# Altium footprint library Cortex-M4.PcbLib: 14 footprints
Each footprint in its own frame and in the unit in brackets; x right, y up, seen from the top. Pads: shape width x height; smd on the part's side, far side on the other; paste and mask are expansions set on the pad; w line width, h text height; cw(c..) or ccw(c..) is an arc to the next point about the centre after c.
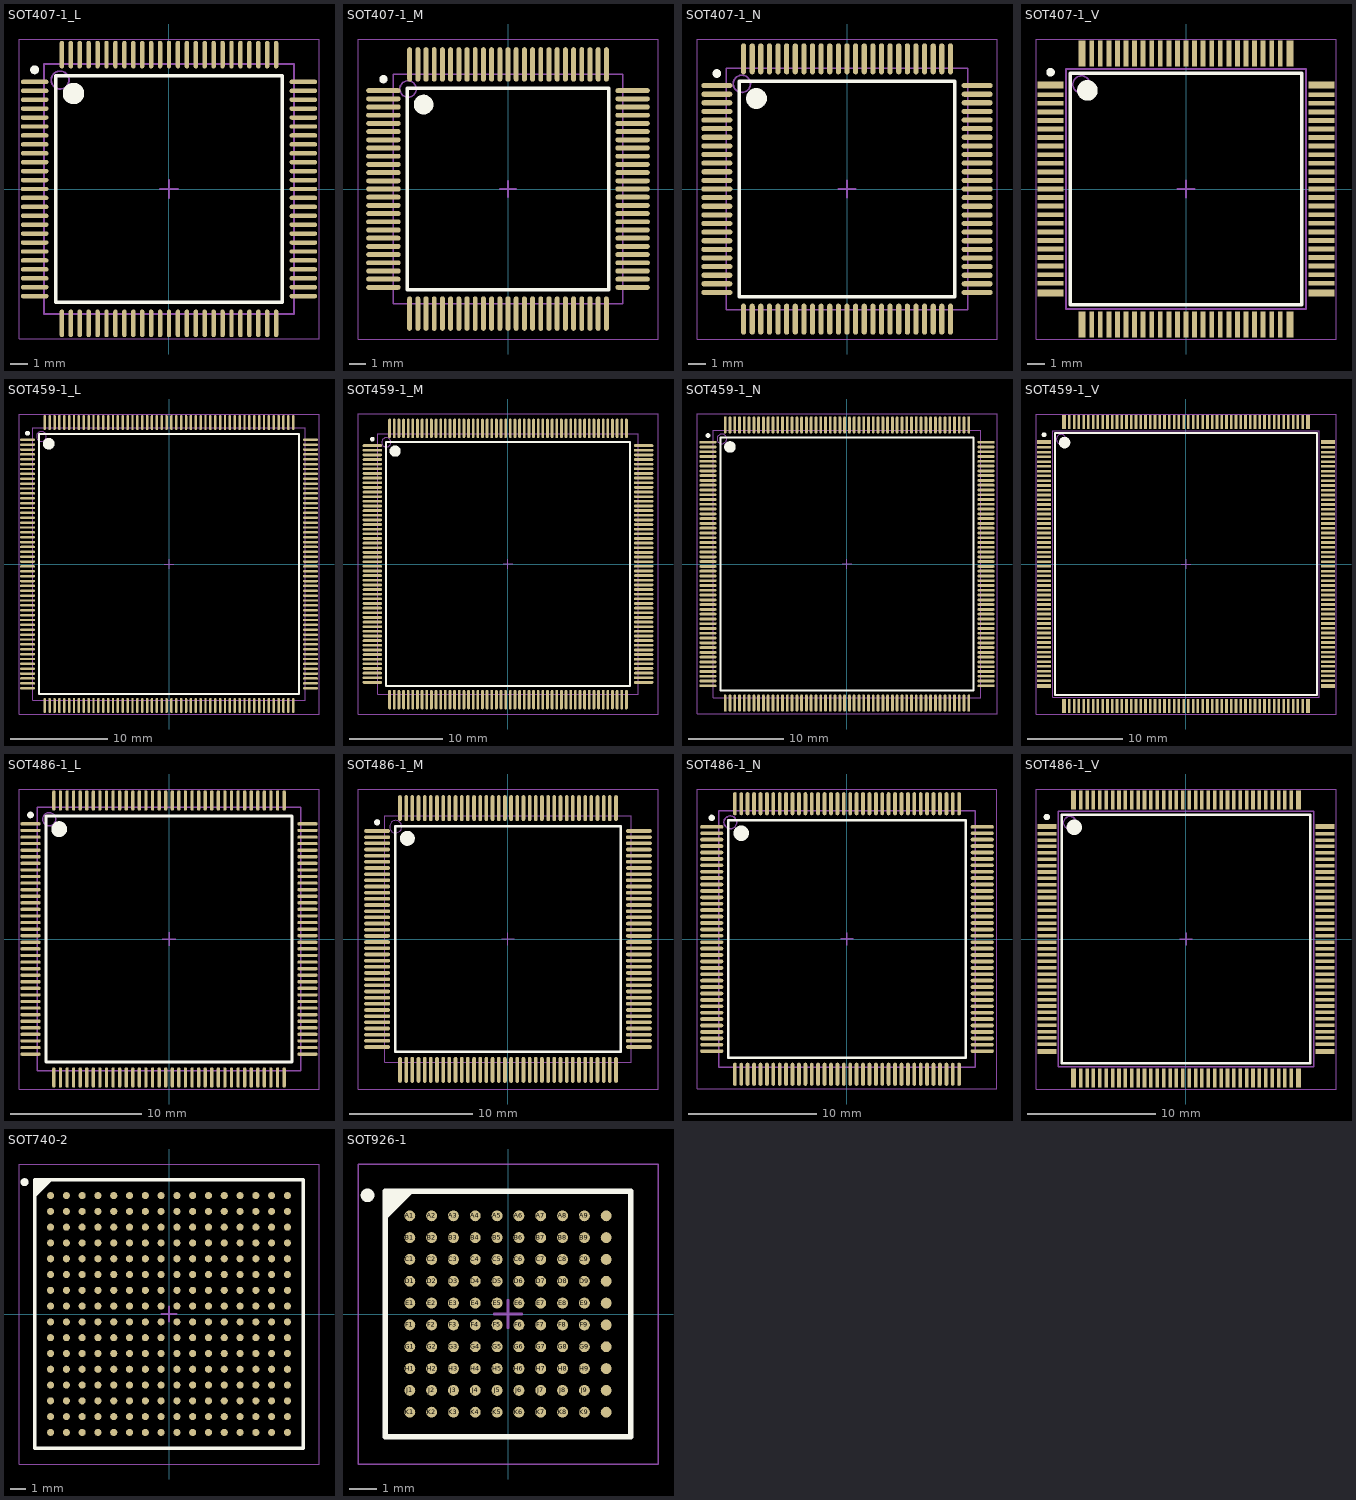
[diagram p0: the footprints below, top view; thin cyan lines are the x and y axes]

## SOT407-1_L [mm] "Thin QFP, 100-Leads, Body 14x14mm, Pitch 0.5mm, IPC High Density"
height 1.6
pads (100):
  oval 1.55x0.25 smd: 1(-7.525,6) 2(-7.525,5.5) 3(-7.525,5) 4(-7.525,4.5) 5(-7.525,4) 6(-7.525,3.5) 7(-7.525,3) 8(-7.525,2.5) 9(-7.525,2) 10(-7.525,1.5) 11(-7.525,1) 12(-7.525,0.5) 13(-7.525,0) 14(-7.525,-0.5) 15(-7.525,-1) 16(-7.525,-1.5) 17(-7.525,-2) 18(-7.525,-2.5) 19(-7.525,-3) 20(-7.525,-3.5) 21(-7.525,-4) 22(-7.525,-4.5) 23(-7.525,-5) 24(-7.525,-5.5) 25(-7.525,-6) 51(7.525,-6) 52(7.525,-5.5) 53(7.525,-5) 54(7.525,-4.5) 55(7.525,-4) 56(7.525,-3.5) 57(7.525,-3) 58(7.525,-2.5) 59(7.525,-2) 60(7.525,-1.5) 61(7.525,-1) 62(7.525,-0.5) 63(7.525,0) 64(7.525,0.5) 65(7.525,1) 66(7.525,1.5) 67(7.525,2) 68(7.525,2.5) 69(7.525,3) 70(7.525,3.5) 71(7.525,4) 72(7.525,4.5) 73(7.525,5) 74(7.525,5.5) 75(7.525,6)
  oval 0.25x1.55 smd: 26(-6,-7.525) 27(-5.5,-7.525) 28(-5,-7.525) 29(-4.5,-7.525) 30(-4,-7.525) 31(-3.5,-7.525) 32(-3,-7.525) 33(-2.5,-7.525) 34(-2,-7.525) 35(-1.5,-7.525) 36(-1,-7.525) 37(-0.5,-7.525) 38(0,-7.525) 39(0.5,-7.525) 40(1,-7.525) 41(1.5,-7.525) 42(2,-7.525) 43(2.5,-7.525) 44(3,-7.525) 45(3.5,-7.525) 46(4,-7.525) 47(4.5,-7.525) 48(5,-7.525) 49(5.5,-7.525) 50(6,-7.525) 76(6,7.525) 77(5.5,7.525) 78(5,7.525) 79(4.5,7.525) 80(4,7.525) 81(3.5,7.525) 82(3,7.525) 83(2.5,7.525) 84(2,7.525) 85(1.5,7.525) 86(1,7.525) 87(0.5,7.525) 88(0,7.525) 89(-0.5,7.525) 90(-1,7.525) 91(-1.5,7.525) 92(-2,7.525) 93(-2.5,7.525) 94(-3,7.525) 95(-3.5,7.525) 96(-4,7.525) 97(-4.5,7.525) 98(-5,7.525) 99(-5.5,7.525) 100(-6,7.525)
Top Overlay:
  circle w0.6: c-5.35,5.35 r0.3
  circle w0.25: c-7.525,6.675 r0.125
  lines w0.2: -6.35,-6.35 6.35,-6.35 6.35,6.35 -6.35,6.35 -6.35,-6.35
Mechanical 13:
  circle w0.1: c-6.1,6.1 r0.5
  lines w0.1: -7,-7 7,-7 7,7 -7,7 -7,-7
Mechanical 15:
  lines w0.05: -8.4,-8.4 8.4,-8.4 8.4,8.4 -8.4,8.4 -8.4,-8.4
  lines w0.1: -0.5,0 0.5,0 ; 0,-0.5 0,0.5
3D body: height 1.6, standoff 0, extent -7,-7 7,7

## SOT407-1_M [mm] "Thin QFP, 100-Leads, Body 14x14mm, Pitch 0.5mm, IPC Low Density"
height 1.6
pads (100):
  oval 2.1x0.3 smd: 1(-7.6,6) 2(-7.6,5.5) 3(-7.6,5) 4(-7.6,4.5) 5(-7.6,4) 6(-7.6,3.5) 7(-7.6,3) 8(-7.6,2.5) 9(-7.6,2) 10(-7.6,1.5) 11(-7.6,1) 12(-7.6,0.5) 13(-7.6,0) 14(-7.6,-0.5) 15(-7.6,-1) 16(-7.6,-1.5) 17(-7.6,-2) 18(-7.6,-2.5) 19(-7.6,-3) 20(-7.6,-3.5) 21(-7.6,-4) 22(-7.6,-4.5) 23(-7.6,-5) 24(-7.6,-5.5) 25(-7.6,-6) 51(7.6,-6) 52(7.6,-5.5) 53(7.6,-5) 54(7.6,-4.5) 55(7.6,-4) 56(7.6,-3.5) 57(7.6,-3) 58(7.6,-2.5) 59(7.6,-2) 60(7.6,-1.5) 61(7.6,-1) 62(7.6,-0.5) 63(7.6,0) 64(7.6,0.5) 65(7.6,1) 66(7.6,1.5) 67(7.6,2) 68(7.6,2.5) 69(7.6,3) 70(7.6,3.5) 71(7.6,4) 72(7.6,4.5) 73(7.6,5) 74(7.6,5.5) 75(7.6,6)
  oval 0.3x2.1 smd: 26(-6,-7.6) 27(-5.5,-7.6) 28(-5,-7.6) 29(-4.5,-7.6) 30(-4,-7.6) 31(-3.5,-7.6) 32(-3,-7.6) 33(-2.5,-7.6) 34(-2,-7.6) 35(-1.5,-7.6) 36(-1,-7.6) 37(-0.5,-7.6) 38(0,-7.6) 39(0.5,-7.6) 40(1,-7.6) 41(1.5,-7.6) 42(2,-7.6) 43(2.5,-7.6) 44(3,-7.6) 45(3.5,-7.6) 46(4,-7.6) 47(4.5,-7.6) 48(5,-7.6) 49(5.5,-7.6) 50(6,-7.6) 76(6,7.6) 77(5.5,7.6) 78(5,7.6) 79(4.5,7.6) 80(4,7.6) 81(3.5,7.6) 82(3,7.6) 83(2.5,7.6) 84(2,7.6) 85(1.5,7.6) 86(1,7.6) 87(0.5,7.6) 88(0,7.6) 89(-0.5,7.6) 90(-1,7.6) 91(-1.5,7.6) 92(-2,7.6) 93(-2.5,7.6) 94(-3,7.6) 95(-3.5,7.6) 96(-4,7.6) 97(-4.5,7.6) 98(-5,7.6) 99(-5.5,7.6) 100(-6,7.6)
Top Overlay:
  circle w0.25: c-7.6,6.7 r0.125
  circle w0.6: c-5.15,5.15 r0.3
  lines w0.2: -6.15,-6.15 -6.15,6.15 6.15,6.15 6.15,-6.15 -6.15,-6.15
Mechanical 13:
  circle w0.1: c-6.1,6.1 r0.5
  lines w0.1: -7,-7 -7,7 7,7 7,-7 -7,-7
Mechanical 15:
  lines w0.05: -9.15,-9.15 -9.15,9.15 9.15,9.15 9.15,-9.15 -9.15,-9.15
  lines w0.1: -0.5,0 0.5,0 ; 0,-0.5 0,0.5
3D body: height 1.6, standoff 0, extent -7,-7 7,7

## SOT407-1_N [mm] "Thin QFP, 100-Leads, Body 14x14mm, Pitch 0.5mm, IPC Medium Density"
height 1.6
pads (100):
  oval 1.8x0.3 smd: 1(-7.55,6) 2(-7.55,5.5) 3(-7.55,5) 4(-7.55,4.5) 5(-7.55,4) 6(-7.55,3.5) 7(-7.55,3) 8(-7.55,2.5) 9(-7.55,2) 10(-7.55,1.5) 11(-7.55,1) 12(-7.55,0.5) 13(-7.55,0) 14(-7.55,-0.5) 15(-7.55,-1) 16(-7.55,-1.5) 17(-7.55,-2) 18(-7.55,-2.5) 19(-7.55,-3) 20(-7.55,-3.5) 21(-7.55,-4) 22(-7.55,-4.5) 23(-7.55,-5) 24(-7.55,-5.5) 25(-7.55,-6) 51(7.55,-6) 52(7.55,-5.5) 53(7.55,-5) 54(7.55,-4.5) 55(7.55,-4) 56(7.55,-3.5) 57(7.55,-3) 58(7.55,-2.5) 59(7.55,-2) 60(7.55,-1.5) 61(7.55,-1) 62(7.55,-0.5) 63(7.55,0) 64(7.55,0.5) 65(7.55,1) 66(7.55,1.5) 67(7.55,2) 68(7.55,2.5) 69(7.55,3) 70(7.55,3.5) 71(7.55,4) 72(7.55,4.5) 73(7.55,5) 74(7.55,5.5) 75(7.55,6)
  oval 0.3x1.8 smd: 26(-6,-7.55) 27(-5.5,-7.55) 28(-5,-7.55) 29(-4.5,-7.55) 30(-4,-7.55) 31(-3.5,-7.55) 32(-3,-7.55) 33(-2.5,-7.55) 34(-2,-7.55) 35(-1.5,-7.55) 36(-1,-7.55) 37(-0.5,-7.55) 38(0,-7.55) 39(0.5,-7.55) 40(1,-7.55) 41(1.5,-7.55) 42(2,-7.55) 43(2.5,-7.55) 44(3,-7.55) 45(3.5,-7.55) 46(4,-7.55) 47(4.5,-7.55) 48(5,-7.55) 49(5.5,-7.55) 50(6,-7.55) 76(6,7.55) 77(5.5,7.55) 78(5,7.55) 79(4.5,7.55) 80(4,7.55) 81(3.5,7.55) 82(3,7.55) 83(2.5,7.55) 84(2,7.55) 85(1.5,7.55) 86(1,7.55) 87(0.5,7.55) 88(0,7.55) 89(-0.5,7.55) 90(-1,7.55) 91(-1.5,7.55) 92(-2,7.55) 93(-2.5,7.55) 94(-3,7.55) 95(-3.5,7.55) 96(-4,7.55) 97(-4.5,7.55) 98(-5,7.55) 99(-5.5,7.55) 100(-6,7.55)
Top Overlay:
  circle w0.25: c-7.55,6.7 r0.125
  circle w0.6: c-5.25,5.25 r0.3
  lines w0.2: -6.25,-6.25 -6.25,6.25 6.25,6.25 6.25,-6.25 -6.25,-6.25
Mechanical 13:
  circle w0.1: c-6.1,6.1 r0.5
  lines w0.1: -7,-7 -7,7 7,7 7,-7 -7,-7
Mechanical 15:
  lines w0.05: -8.7,-8.7 -8.7,8.7 8.7,8.7 8.7,-8.7 -8.7,-8.7
  lines w0.1: -0.5,0 0.5,0 ; 0,-0.5 0,0.5
3D body: height 1.6, standoff 0, extent -7,-7 7,7

## SOT407-1_V [mm] "Thin QFP, 100-Leads, Body 14x14mm, Pitch 0.5mm, NXP Recommended"
height 1.6
pads (100):
  rect 1.5x0.4 smd: 1(-7.9,6.06) 25(-7.9,-6.06) 51(7.9,-6.06) 75(7.9,6.06)
  rect 1.5x0.28 smd: 2(-7.9,5.5) 3(-7.9,5) 4(-7.9,4.5) 5(-7.9,4) 6(-7.9,3.5) 7(-7.9,3) 8(-7.9,2.5) 9(-7.9,2) 10(-7.9,1.5) 11(-7.9,1) 12(-7.9,0.5) 13(-7.9,0) 14(-7.9,-0.5) 15(-7.9,-1) 16(-7.9,-1.5) 17(-7.9,-2) 18(-7.9,-2.5) 19(-7.9,-3) 20(-7.9,-3.5) 21(-7.9,-4) 22(-7.9,-4.5) 23(-7.9,-5) 24(-7.9,-5.5) 52(7.9,-5.5) 53(7.9,-5) 54(7.9,-4.5) 55(7.9,-4) 56(7.9,-3.5) 57(7.9,-3) 58(7.9,-2.5) 59(7.9,-2) 60(7.9,-1.5) 61(7.9,-1) 62(7.9,-0.5) 63(7.9,0) 64(7.9,0.5) 65(7.9,1) 66(7.9,1.5) 67(7.9,2) 68(7.9,2.5) 69(7.9,3) 70(7.9,3.5) 71(7.9,4) 72(7.9,4.5) 73(7.9,5) 74(7.9,5.5)
  rect 0.4x1.5 smd: 26(-6.06,-7.9) 50(6.06,-7.9) 76(6.06,7.9) 100(-6.06,7.9)
  rect 0.28x1.5 smd: 27(-5.5,-7.9) 28(-5,-7.9) 29(-4.5,-7.9) 30(-4,-7.9) 31(-3.5,-7.9) 32(-3,-7.9) 33(-2.5,-7.9) 34(-2,-7.9) 35(-1.5,-7.9) 36(-1,-7.9) 37(-0.5,-7.9) 38(0,-7.9) 39(0.5,-7.9) 40(1,-7.9) 41(1.5,-7.9) 42(2,-7.9) 43(2.5,-7.9) 44(3,-7.9) 45(3.5,-7.9) 46(4,-7.9) 47(4.5,-7.9) 48(5,-7.9) 49(5.5,-7.9) 77(5.5,7.9) 78(5,7.9) 79(4.5,7.9) 80(4,7.9) 81(3.5,7.9) 82(3,7.9) 83(2.5,7.9) 84(2,7.9) 85(1.5,7.9) 86(1,7.9) 87(0.5,7.9) 88(0,7.9) 89(-0.5,7.9) 90(-1,7.9) 91(-1.5,7.9) 92(-2,7.9) 93(-2.5,7.9) 94(-3,7.9) 95(-3.5,7.9) 96(-4,7.9) 97(-4.5,7.9) 98(-5,7.9) 99(-5.5,7.9)
Top Overlay:
  circle w0.25: c-7.9,6.81 r0.125
  circle w0.6: c-5.75,5.75 r0.3
  lines w0.2: -6.75,-6.75 -6.75,6.75 6.75,6.75 6.75,-6.75 -6.75,-6.75
Mechanical 13:
  circle w0.1: c-6.1,6.1 r0.5
  lines w0.1: -7,-7 -7,7 7,7 7,-7 -7,-7
Mechanical 15:
  lines w0.05: -8.75,-8.75 -8.75,8.75 8.75,8.75 8.75,-8.75 -8.75,-8.75
  lines w0.1: -0.5,0 0.5,0 ; 0,-0.5 0,0.5
3D body: height 1.6, standoff 0.05, extent -7,-7 7,7

## SOT459-1_L [mm] "Thin QFP, 208-Leads, Body 28x28mm, Pitch 0.5mm, IPC High Density"
height 1.6
pads (208):
  oval 1.55x0.25 smd: 1(-14.525,12.75) 2(-14.525,12.25) 3(-14.525,11.75) 4(-14.525,11.25) 5(-14.525,10.75) 6(-14.525,10.25) 7(-14.525,9.75) 8(-14.525,9.25) 9(-14.525,8.75) 10(-14.525,8.25) 11(-14.525,7.75) 12(-14.525,7.25) 13(-14.525,6.75) 14(-14.525,6.25) 15(-14.525,5.75) 16(-14.525,5.25) 17(-14.525,4.75) 18(-14.525,4.25) 19(-14.525,3.75) 20(-14.525,3.25) 21(-14.525,2.75) 22(-14.525,2.25) 23(-14.525,1.75) 24(-14.525,1.25) 25(-14.525,0.75) 26(-14.525,0.25) 27(-14.525,-0.25) 28(-14.525,-0.75) 29(-14.525,-1.25) 30(-14.525,-1.75) 31(-14.525,-2.25) 32(-14.525,-2.75) 33(-14.525,-3.25) 34(-14.525,-3.75) 35(-14.525,-4.25) 36(-14.525,-4.75) 37(-14.525,-5.25) 38(-14.525,-5.75) 39(-14.525,-6.25) 40(-14.525,-6.75) 41(-14.525,-7.25) 42(-14.525,-7.75) 43(-14.525,-8.25) 44(-14.525,-8.75) 45(-14.525,-9.25) 46(-14.525,-9.75) 47(-14.525,-10.25) 48(-14.525,-10.75) 49(-14.525,-11.25) 50(-14.525,-11.75) 51(-14.525,-12.25) 52(-14.525,-12.75) 105(14.525,-12.75) 106(14.525,-12.25) 107(14.525,-11.75) 108(14.525,-11.25) 109(14.525,-10.75) 110(14.525,-10.25) 111(14.525,-9.75) 112(14.525,-9.25) 113(14.525,-8.75) 114(14.525,-8.25) 115(14.525,-7.75) 116(14.525,-7.25) 117(14.525,-6.75) 118(14.525,-6.25) 119(14.525,-5.75) 120(14.525,-5.25) 121(14.525,-4.75) 122(14.525,-4.25) 123(14.525,-3.75) 124(14.525,-3.25) 125(14.525,-2.75) 126(14.525,-2.25) 127(14.525,-1.75) 128(14.525,-1.25) 129(14.525,-0.75) 130(14.525,-0.25) 131(14.525,0.25) 132(14.525,0.75) 133(14.525,1.25) 134(14.525,1.75) 135(14.525,2.25) 136(14.525,2.75) 137(14.525,3.25) 138(14.525,3.75) 139(14.525,4.25) 140(14.525,4.75) 141(14.525,5.25) 142(14.525,5.75) 143(14.525,6.25) 144(14.525,6.75) 145(14.525,7.25) 146(14.525,7.75) 147(14.525,8.25) 148(14.525,8.75) 149(14.525,9.25) 150(14.525,9.75) 151(14.525,10.25) 152(14.525,10.75) 153(14.525,11.25) 154(14.525,11.75) 155(14.525,12.25) 156(14.525,12.75)
  oval 0.25x1.55 smd: 53(-12.75,-14.525) 54(-12.25,-14.525) 55(-11.75,-14.525) 56(-11.25,-14.525) 57(-10.75,-14.525) 58(-10.25,-14.525) 59(-9.75,-14.525) 60(-9.25,-14.525) 61(-8.75,-14.525) 62(-8.25,-14.525) 63(-7.75,-14.525) 64(-7.25,-14.525) 65(-6.75,-14.525) 66(-6.25,-14.525) 67(-5.75,-14.525) 68(-5.25,-14.525) 69(-4.75,-14.525) 70(-4.25,-14.525) 71(-3.75,-14.525) 72(-3.25,-14.525) 73(-2.75,-14.525) 74(-2.25,-14.525) 75(-1.75,-14.525) 76(-1.25,-14.525) 77(-0.75,-14.525) 78(-0.25,-14.525) 79(0.25,-14.525) 80(0.75,-14.525) 81(1.25,-14.525) 82(1.75,-14.525) 83(2.25,-14.525) 84(2.75,-14.525) 85(3.25,-14.525) 86(3.75,-14.525) 87(4.25,-14.525) 88(4.75,-14.525) 89(5.25,-14.525) 90(5.75,-14.525) 91(6.25,-14.525) 92(6.75,-14.525) 93(7.25,-14.525) 94(7.75,-14.525) 95(8.25,-14.525) 96(8.75,-14.525) 97(9.25,-14.525) 98(9.75,-14.525) 99(10.25,-14.525) 100(10.75,-14.525) 101(11.25,-14.525) 102(11.75,-14.525) 103(12.25,-14.525) 104(12.75,-14.525) 157(12.75,14.525) 158(12.25,14.525) 159(11.75,14.525) 160(11.25,14.525) 161(10.75,14.525) 162(10.25,14.525) 163(9.75,14.525) 164(9.25,14.525) 165(8.75,14.525) 166(8.25,14.525) 167(7.75,14.525) 168(7.25,14.525) 169(6.75,14.525) 170(6.25,14.525) 171(5.75,14.525) 172(5.25,14.525) 173(4.75,14.525) 174(4.25,14.525) 175(3.75,14.525) 176(3.25,14.525) 177(2.75,14.525) 178(2.25,14.525) 179(1.75,14.525) 180(1.25,14.525) 181(0.75,14.525) 182(0.25,14.525) 183(-0.25,14.525) 184(-0.75,14.525) 185(-1.25,14.525) 186(-1.75,14.525) 187(-2.25,14.525) 188(-2.75,14.525) 189(-3.25,14.525) 190(-3.75,14.525) 191(-4.25,14.525) 192(-4.75,14.525) 193(-5.25,14.525) 194(-5.75,14.525) 195(-6.25,14.525) 196(-6.75,14.525) 197(-7.25,14.525) 198(-7.75,14.525) 199(-8.25,14.525) 200(-8.75,14.525) 201(-9.25,14.525) 202(-9.75,14.525) 203(-10.25,14.525) 204(-10.75,14.525) 205(-11.25,14.525) 206(-11.75,14.525) 207(-12.25,14.525) 208(-12.75,14.525)
Top Overlay:
  circle w0.25: c-14.525,13.425 r0.125
  circle w0.6: c-12.35,12.35 r0.3
  lines w0.2: -13.35,-13.35 -13.35,13.35 13.35,13.35 13.35,-13.35 -13.35,-13.35
Mechanical 13:
  circle w0.1: c-13.1,13.1 r0.5
  lines w0.1: -14,-14 -14,14 14,14 14,-14 -14,-14
Mechanical 15:
  lines w0.05: -15.4,-15.4 -15.4,15.4 15.4,15.4 15.4,-15.4 -15.4,-15.4
  lines w0.1: -0.5,0 0.5,0 ; 0,-0.5 0,0.5
3D body: height 1.6, standoff 0, extent -14,-14 14,14

## SOT459-1_M [mm] "Thin QFP, 208-Leads, Body 28x28mm, Pitch 0.5mm, IPC Low Density"
height 1.6
pads (208):
  oval 2.1x0.3 smd: 1(-14.6,12.75) 2(-14.6,12.25) 3(-14.6,11.75) 4(-14.6,11.25) 5(-14.6,10.75) 6(-14.6,10.25) 7(-14.6,9.75) 8(-14.6,9.25) 9(-14.6,8.75) 10(-14.6,8.25) 11(-14.6,7.75) 12(-14.6,7.25) 13(-14.6,6.75) 14(-14.6,6.25) 15(-14.6,5.75) 16(-14.6,5.25) 17(-14.6,4.75) 18(-14.6,4.25) 19(-14.6,3.75) 20(-14.6,3.25) 21(-14.6,2.75) 22(-14.6,2.25) 23(-14.6,1.75) 24(-14.6,1.25) 25(-14.6,0.75) 26(-14.6,0.25) 27(-14.6,-0.25) 28(-14.6,-0.75) 29(-14.6,-1.25) 30(-14.6,-1.75) 31(-14.6,-2.25) 32(-14.6,-2.75) 33(-14.6,-3.25) 34(-14.6,-3.75) 35(-14.6,-4.25) 36(-14.6,-4.75) 37(-14.6,-5.25) 38(-14.6,-5.75) 39(-14.6,-6.25) 40(-14.6,-6.75) 41(-14.6,-7.25) 42(-14.6,-7.75) 43(-14.6,-8.25) 44(-14.6,-8.75) 45(-14.6,-9.25) 46(-14.6,-9.75) 47(-14.6,-10.25) 48(-14.6,-10.75) 49(-14.6,-11.25) 50(-14.6,-11.75) 51(-14.6,-12.25) 52(-14.6,-12.75) 105(14.6,-12.75) 106(14.6,-12.25) 107(14.6,-11.75) 108(14.6,-11.25) 109(14.6,-10.75) 110(14.6,-10.25) 111(14.6,-9.75) 112(14.6,-9.25) 113(14.6,-8.75) 114(14.6,-8.25) 115(14.6,-7.75) 116(14.6,-7.25) 117(14.6,-6.75) 118(14.6,-6.25) 119(14.6,-5.75) 120(14.6,-5.25) 121(14.6,-4.75) 122(14.6,-4.25) 123(14.6,-3.75) 124(14.6,-3.25) 125(14.6,-2.75) 126(14.6,-2.25) 127(14.6,-1.75) 128(14.6,-1.25) 129(14.6,-0.75) 130(14.6,-0.25) 131(14.6,0.25) 132(14.6,0.75) 133(14.6,1.25) 134(14.6,1.75) 135(14.6,2.25) 136(14.6,2.75) 137(14.6,3.25) 138(14.6,3.75) 139(14.6,4.25) 140(14.6,4.75) 141(14.6,5.25) 142(14.6,5.75) 143(14.6,6.25) 144(14.6,6.75) 145(14.6,7.25) 146(14.6,7.75) 147(14.6,8.25) 148(14.6,8.75) 149(14.6,9.25) 150(14.6,9.75) 151(14.6,10.25) 152(14.6,10.75) 153(14.6,11.25) 154(14.6,11.75) 155(14.6,12.25) 156(14.6,12.75)
  oval 0.3x2.1 smd: 53(-12.75,-14.6) 54(-12.25,-14.6) 55(-11.75,-14.6) 56(-11.25,-14.6) 57(-10.75,-14.6) 58(-10.25,-14.6) 59(-9.75,-14.6) 60(-9.25,-14.6) 61(-8.75,-14.6) 62(-8.25,-14.6) 63(-7.75,-14.6) 64(-7.25,-14.6) 65(-6.75,-14.6) 66(-6.25,-14.6) 67(-5.75,-14.6) 68(-5.25,-14.6) 69(-4.75,-14.6) 70(-4.25,-14.6) 71(-3.75,-14.6) 72(-3.25,-14.6) 73(-2.75,-14.6) 74(-2.25,-14.6) 75(-1.75,-14.6) 76(-1.25,-14.6) 77(-0.75,-14.6) 78(-0.25,-14.6) 79(0.25,-14.6) 80(0.75,-14.6) 81(1.25,-14.6) 82(1.75,-14.6) 83(2.25,-14.6) 84(2.75,-14.6) 85(3.25,-14.6) 86(3.75,-14.6) 87(4.25,-14.6) 88(4.75,-14.6) 89(5.25,-14.6) 90(5.75,-14.6) 91(6.25,-14.6) 92(6.75,-14.6) 93(7.25,-14.6) 94(7.75,-14.6) 95(8.25,-14.6) 96(8.75,-14.6) 97(9.25,-14.6) 98(9.75,-14.6) 99(10.25,-14.6) 100(10.75,-14.6) 101(11.25,-14.6) 102(11.75,-14.6) 103(12.25,-14.6) 104(12.75,-14.6) 157(12.75,14.6) 158(12.25,14.6) 159(11.75,14.6) 160(11.25,14.6) 161(10.75,14.6) 162(10.25,14.6) 163(9.75,14.6) 164(9.25,14.6) 165(8.75,14.6) 166(8.25,14.6) 167(7.75,14.6) 168(7.25,14.6) 169(6.75,14.6) 170(6.25,14.6) 171(5.75,14.6) 172(5.25,14.6) 173(4.75,14.6) 174(4.25,14.6) 175(3.75,14.6) 176(3.25,14.6) 177(2.75,14.6) 178(2.25,14.6) 179(1.75,14.6) 180(1.25,14.6) 181(0.75,14.6) 182(0.25,14.6) 183(-0.25,14.6) 184(-0.75,14.6) 185(-1.25,14.6) 186(-1.75,14.6) 187(-2.25,14.6) 188(-2.75,14.6) 189(-3.25,14.6) 190(-3.75,14.6) 191(-4.25,14.6) 192(-4.75,14.6) 193(-5.25,14.6) 194(-5.75,14.6) 195(-6.25,14.6) 196(-6.75,14.6) 197(-7.25,14.6) 198(-7.75,14.6) 199(-8.25,14.6) 200(-8.75,14.6) 201(-9.25,14.6) 202(-9.75,14.6) 203(-10.25,14.6) 204(-10.75,14.6) 205(-11.25,14.6) 206(-11.75,14.6) 207(-12.25,14.6) 208(-12.75,14.6)
Top Overlay:
  circle w0.25: c-14.6,13.45 r0.125
  circle w0.6: c-12.15,12.15 r0.3
  lines w0.2: -13.15,-13.15 -13.15,13.15 13.15,13.15 13.15,-13.15 -13.15,-13.15
Mechanical 13:
  circle w0.1: c-13.1,13.1 r0.5
  lines w0.1: -14,-14 -14,14 14,14 14,-14 -14,-14
Mechanical 15:
  lines w0.05: -16.15,-16.15 -16.15,16.15 16.15,16.15 16.15,-16.15 -16.15,-16.15
  lines w0.1: -0.5,0 0.5,0 ; 0,-0.5 0,0.5
3D body: height 1.6, standoff 0, extent -14,-14 14,14

## SOT459-1_N [mm] "Thin QFP, 208-Leads, Body 28x28mm, Pitch 0.5mm, IPC Medium Density"
height 1.6
pads (208):
  oval 1.8x0.3 smd: 1(-14.55,12.75) 2(-14.55,12.25) 3(-14.55,11.75) 4(-14.55,11.25) 5(-14.55,10.75) 6(-14.55,10.25) 7(-14.55,9.75) 8(-14.55,9.25) 9(-14.55,8.75) 10(-14.55,8.25) 11(-14.55,7.75) 12(-14.55,7.25) 13(-14.55,6.75) 14(-14.55,6.25) 15(-14.55,5.75) 16(-14.55,5.25) 17(-14.55,4.75) 18(-14.55,4.25) 19(-14.55,3.75) 20(-14.55,3.25) 21(-14.55,2.75) 22(-14.55,2.25) 23(-14.55,1.75) 24(-14.55,1.25) 25(-14.55,0.75) 26(-14.55,0.25) 27(-14.55,-0.25) 28(-14.55,-0.75) 29(-14.55,-1.25) 30(-14.55,-1.75) 31(-14.55,-2.25) 32(-14.55,-2.75) 33(-14.55,-3.25) 34(-14.55,-3.75) 35(-14.55,-4.25) 36(-14.55,-4.75) 37(-14.55,-5.25) 38(-14.55,-5.75) 39(-14.55,-6.25) 40(-14.55,-6.75) 41(-14.55,-7.25) 42(-14.55,-7.75) 43(-14.55,-8.25) 44(-14.55,-8.75) 45(-14.55,-9.25) 46(-14.55,-9.75) 47(-14.55,-10.25) 48(-14.55,-10.75) 49(-14.55,-11.25) 50(-14.55,-11.75) 51(-14.55,-12.25) 52(-14.55,-12.75) 105(14.55,-12.75) 106(14.55,-12.25) 107(14.55,-11.75) 108(14.55,-11.25) 109(14.55,-10.75) 110(14.55,-10.25) 111(14.55,-9.75) 112(14.55,-9.25) 113(14.55,-8.75) 114(14.55,-8.25) 115(14.55,-7.75) 116(14.55,-7.25) 117(14.55,-6.75) 118(14.55,-6.25) 119(14.55,-5.75) 120(14.55,-5.25) 121(14.55,-4.75) 122(14.55,-4.25) 123(14.55,-3.75) 124(14.55,-3.25) 125(14.55,-2.75) 126(14.55,-2.25) 127(14.55,-1.75) 128(14.55,-1.25) 129(14.55,-0.75) 130(14.55,-0.25) 131(14.55,0.25) 132(14.55,0.75) 133(14.55,1.25) 134(14.55,1.75) 135(14.55,2.25) 136(14.55,2.75) 137(14.55,3.25) 138(14.55,3.75) 139(14.55,4.25) 140(14.55,4.75) 141(14.55,5.25) 142(14.55,5.75) 143(14.55,6.25) 144(14.55,6.75) 145(14.55,7.25) 146(14.55,7.75) 147(14.55,8.25) 148(14.55,8.75) 149(14.55,9.25) 150(14.55,9.75) 151(14.55,10.25) 152(14.55,10.75) 153(14.55,11.25) 154(14.55,11.75) 155(14.55,12.25) 156(14.55,12.75)
  oval 0.3x1.8 smd: 53(-12.75,-14.55) 54(-12.25,-14.55) 55(-11.75,-14.55) 56(-11.25,-14.55) 57(-10.75,-14.55) 58(-10.25,-14.55) 59(-9.75,-14.55) 60(-9.25,-14.55) 61(-8.75,-14.55) 62(-8.25,-14.55) 63(-7.75,-14.55) 64(-7.25,-14.55) 65(-6.75,-14.55) 66(-6.25,-14.55) 67(-5.75,-14.55) 68(-5.25,-14.55) 69(-4.75,-14.55) 70(-4.25,-14.55) 71(-3.75,-14.55) 72(-3.25,-14.55) 73(-2.75,-14.55) 74(-2.25,-14.55) 75(-1.75,-14.55) 76(-1.25,-14.55) 77(-0.75,-14.55) 78(-0.25,-14.55) 79(0.25,-14.55) 80(0.75,-14.55) 81(1.25,-14.55) 82(1.75,-14.55) 83(2.25,-14.55) 84(2.75,-14.55) 85(3.25,-14.55) 86(3.75,-14.55) 87(4.25,-14.55) 88(4.75,-14.55) 89(5.25,-14.55) 90(5.75,-14.55) 91(6.25,-14.55) 92(6.75,-14.55) 93(7.25,-14.55) 94(7.75,-14.55) 95(8.25,-14.55) 96(8.75,-14.55) 97(9.25,-14.55) 98(9.75,-14.55) 99(10.25,-14.55) 100(10.75,-14.55) 101(11.25,-14.55) 102(11.75,-14.55) 103(12.25,-14.55) 104(12.75,-14.55) 157(12.75,14.55) 158(12.25,14.55) 159(11.75,14.55) 160(11.25,14.55) 161(10.75,14.55) 162(10.25,14.55) 163(9.75,14.55) 164(9.25,14.55) 165(8.75,14.55) 166(8.25,14.55) 167(7.75,14.55) 168(7.25,14.55) 169(6.75,14.55) 170(6.25,14.55) 171(5.75,14.55) 172(5.25,14.55) 173(4.75,14.55) 174(4.25,14.55) 175(3.75,14.55) 176(3.25,14.55) 177(2.75,14.55) 178(2.25,14.55) 179(1.75,14.55) 180(1.25,14.55) 181(0.75,14.55) 182(0.25,14.55) 183(-0.25,14.55) 184(-0.75,14.55) 185(-1.25,14.55) 186(-1.75,14.55) 187(-2.25,14.55) 188(-2.75,14.55) 189(-3.25,14.55) 190(-3.75,14.55) 191(-4.25,14.55) 192(-4.75,14.55) 193(-5.25,14.55) 194(-5.75,14.55) 195(-6.25,14.55) 196(-6.75,14.55) 197(-7.25,14.55) 198(-7.75,14.55) 199(-8.25,14.55) 200(-8.75,14.55) 201(-9.25,14.55) 202(-9.75,14.55) 203(-10.25,14.55) 204(-10.75,14.55) 205(-11.25,14.55) 206(-11.75,14.55) 207(-12.25,14.55) 208(-12.75,14.55)
Top Overlay:
  circle w0.6: c-12.25,12.25 r0.3
  circle w0.25: c-14.55,13.45 r0.125
  lines w0.2: -13.25,-13.25 13.25,-13.25 13.25,13.25 -13.25,13.25 -13.25,-13.25
Mechanical 13:
  circle w0.1: c-13.1,13.1 r0.5
  lines w0.1: -14,-14 14,-14 14,14 -14,14 -14,-14
Mechanical 15:
  lines w0.05: -15.7,-15.7 15.7,-15.7 15.7,15.7 -15.7,15.7 -15.7,-15.7
  lines w0.1: -0.5,0 0.5,0 ; 0,-0.5 0,0.5
3D body: height 1.6, standoff 0, extent -14,-14 14,14

## SOT459-1_V [mm] "Thin QFP, 208-Leads, Body 28x28mm, Pitch 0.5mm, NXP Recommended"
height 1.6
pads (208):
  rect 1.5x0.4 smd: 1(-14.9,12.81) 52(-14.9,-12.81) 105(14.9,-12.81) 156(14.9,12.81)
  rect 1.5x0.28 smd: 2(-14.9,12.25) 3(-14.9,11.75) 4(-14.9,11.25) 5(-14.9,10.75) 6(-14.9,10.25) 7(-14.9,9.75) 8(-14.9,9.25) 9(-14.9,8.75) 10(-14.9,8.25) 11(-14.9,7.75) 12(-14.9,7.25) 13(-14.9,6.75) 14(-14.9,6.25) 15(-14.9,5.75) 16(-14.9,5.25) 17(-14.9,4.75) 18(-14.9,4.25) 19(-14.9,3.75) 20(-14.9,3.25) 21(-14.9,2.75) 22(-14.9,2.25) 23(-14.9,1.75) 24(-14.9,1.25) 25(-14.9,0.75) 26(-14.9,0.25) 27(-14.9,-0.25) 28(-14.9,-0.75) 29(-14.9,-1.25) 30(-14.9,-1.75) 31(-14.9,-2.25) 32(-14.9,-2.75) 33(-14.9,-3.25) 34(-14.9,-3.75) 35(-14.9,-4.25) 36(-14.9,-4.75) 37(-14.9,-5.25) 38(-14.9,-5.75) 39(-14.9,-6.25) 40(-14.9,-6.75) 41(-14.9,-7.25) 42(-14.9,-7.75) 43(-14.9,-8.25) 44(-14.9,-8.75) 45(-14.9,-9.25) 46(-14.9,-9.75) 47(-14.9,-10.25) 48(-14.9,-10.75) 49(-14.9,-11.25) 50(-14.9,-11.75) 51(-14.9,-12.25) 106(14.9,-12.25) 107(14.9,-11.75) 108(14.9,-11.25) 109(14.9,-10.75) 110(14.9,-10.25) 111(14.9,-9.75) 112(14.9,-9.25) 113(14.9,-8.75) 114(14.9,-8.25) 115(14.9,-7.75) 116(14.9,-7.25) 117(14.9,-6.75) 118(14.9,-6.25) 119(14.9,-5.75) 120(14.9,-5.25) 121(14.9,-4.75) 122(14.9,-4.25) 123(14.9,-3.75) 124(14.9,-3.25) 125(14.9,-2.75) 126(14.9,-2.25) 127(14.9,-1.75) 128(14.9,-1.25) 129(14.9,-0.75) 130(14.9,-0.25) 131(14.9,0.25) 132(14.9,0.75) 133(14.9,1.25) 134(14.9,1.75) 135(14.9,2.25) 136(14.9,2.75) 137(14.9,3.25) 138(14.9,3.75) 139(14.9,4.25) 140(14.9,4.75) 141(14.9,5.25) 142(14.9,5.75) 143(14.9,6.25) 144(14.9,6.75) 145(14.9,7.25) 146(14.9,7.75) 147(14.9,8.25) 148(14.9,8.75) 149(14.9,9.25) 150(14.9,9.75) 151(14.9,10.25) 152(14.9,10.75) 153(14.9,11.25) 154(14.9,11.75) 155(14.9,12.25)
  rect 0.4x1.5 smd: 53(-12.81,-14.9) 104(12.81,-14.9) 157(12.81,14.9) 208(-12.81,14.9)
  rect 0.28x1.5 smd: 54(-12.25,-14.9) 55(-11.75,-14.9) 56(-11.25,-14.9) 57(-10.75,-14.9) 58(-10.25,-14.9) 59(-9.75,-14.9) 60(-9.25,-14.9) 61(-8.75,-14.9) 62(-8.25,-14.9) 63(-7.75,-14.9) 64(-7.25,-14.9) 65(-6.75,-14.9) 66(-6.25,-14.9) 67(-5.75,-14.9) 68(-5.25,-14.9) 69(-4.75,-14.9) 70(-4.25,-14.9) 71(-3.75,-14.9) 72(-3.25,-14.9) 73(-2.75,-14.9) 74(-2.25,-14.9) 75(-1.75,-14.9) 76(-1.25,-14.9) 77(-0.75,-14.9) 78(-0.25,-14.9) 79(0.25,-14.9) 80(0.75,-14.9) 81(1.25,-14.9) 82(1.75,-14.9) 83(2.25,-14.9) 84(2.75,-14.9) 85(3.25,-14.9) 86(3.75,-14.9) 87(4.25,-14.9) 88(4.75,-14.9) 89(5.25,-14.9) 90(5.75,-14.9) 91(6.25,-14.9) 92(6.75,-14.9) 93(7.25,-14.9) 94(7.75,-14.9) 95(8.25,-14.9) 96(8.75,-14.9) 97(9.25,-14.9) 98(9.75,-14.9) 99(10.25,-14.9) 100(10.75,-14.9) 101(11.25,-14.9) 102(11.75,-14.9) 103(12.25,-14.9) 158(12.25,14.9) 159(11.75,14.9) 160(11.25,14.9) 161(10.75,14.9) 162(10.25,14.9) 163(9.75,14.9) 164(9.25,14.9) 165(8.75,14.9) 166(8.25,14.9) 167(7.75,14.9) 168(7.25,14.9) 169(6.75,14.9) 170(6.25,14.9) 171(5.75,14.9) 172(5.25,14.9) 173(4.75,14.9) 174(4.25,14.9) 175(3.75,14.9) 176(3.25,14.9) 177(2.75,14.9) 178(2.25,14.9) 179(1.75,14.9) 180(1.25,14.9) 181(0.75,14.9) 182(0.25,14.9) 183(-0.25,14.9) 184(-0.75,14.9) 185(-1.25,14.9) 186(-1.75,14.9) 187(-2.25,14.9) 188(-2.75,14.9) 189(-3.25,14.9) 190(-3.75,14.9) 191(-4.25,14.9) 192(-4.75,14.9) 193(-5.25,14.9) 194(-5.75,14.9) 195(-6.25,14.9) 196(-6.75,14.9) 197(-7.25,14.9) 198(-7.75,14.9) 199(-8.25,14.9) 200(-8.75,14.9) 201(-9.25,14.9) 202(-9.75,14.9) 203(-10.25,14.9) 204(-10.75,14.9) 205(-11.25,14.9) 206(-11.75,14.9) 207(-12.25,14.9)
Top Overlay:
  circle w0.6: c-12.75,12.75 r0.3
  circle w0.25: c-14.9,13.56 r0.125
  lines w0.2: -13.75,-13.75 13.75,-13.75 13.75,13.75 -13.75,13.75 -13.75,-13.75
Mechanical 13:
  circle w0.1: c-13.1,13.1 r0.5
  lines w0.1: -14,-14 14,-14 14,14 -14,14 -14,-14
Mechanical 15:
  lines w0.05: -15.75,-15.75 15.75,-15.75 15.75,15.75 -15.75,15.75 -15.75,-15.75
  lines w0.1: -0.5,0 0.5,0 ; 0,-0.5 0,0.5
3D body: height 1.6, standoff 0.05, extent -14,-14 14,14

## SOT486-1_L [mm] "Thin QFP, 144-Leads, Body 20x20mm, Pitch 0.5mm, IPC High Density"
height 1.6
pads (144):
  oval 1.55x0.25 smd: 1(-10.525,8.75) 2(-10.525,8.25) 3(-10.525,7.75) 4(-10.525,7.25) 5(-10.525,6.75) 6(-10.525,6.25) 7(-10.525,5.75) 8(-10.525,5.25) 9(-10.525,4.75) 10(-10.525,4.25) 11(-10.525,3.75) 12(-10.525,3.25) 13(-10.525,2.75) 14(-10.525,2.25) 15(-10.525,1.75) 16(-10.525,1.25) 17(-10.525,0.75) 18(-10.525,0.25) 19(-10.525,-0.25) 20(-10.525,-0.75) 21(-10.525,-1.25) 22(-10.525,-1.75) 23(-10.525,-2.25) 24(-10.525,-2.75) 25(-10.525,-3.25) 26(-10.525,-3.75) 27(-10.525,-4.25) 28(-10.525,-4.75) 29(-10.525,-5.25) 30(-10.525,-5.75) 31(-10.525,-6.25) 32(-10.525,-6.75) 33(-10.525,-7.25) 34(-10.525,-7.75) 35(-10.525,-8.25) 36(-10.525,-8.75) 73(10.525,-8.75) 74(10.525,-8.25) 75(10.525,-7.75) 76(10.525,-7.25) 77(10.525,-6.75) 78(10.525,-6.25) 79(10.525,-5.75) 80(10.525,-5.25) 81(10.525,-4.75) 82(10.525,-4.25) 83(10.525,-3.75) 84(10.525,-3.25) 85(10.525,-2.75) 86(10.525,-2.25) 87(10.525,-1.75) 88(10.525,-1.25) 89(10.525,-0.75) 90(10.525,-0.25) 91(10.525,0.25) 92(10.525,0.75) 93(10.525,1.25) 94(10.525,1.75) 95(10.525,2.25) 96(10.525,2.75) 97(10.525,3.25) 98(10.525,3.75) 99(10.525,4.25) 100(10.525,4.75) 101(10.525,5.25) 102(10.525,5.75) 103(10.525,6.25) 104(10.525,6.75) 105(10.525,7.25) 106(10.525,7.75) 107(10.525,8.25) 108(10.525,8.75)
  oval 0.25x1.55 smd: 37(-8.75,-10.525) 38(-8.25,-10.525) 39(-7.75,-10.525) 40(-7.25,-10.525) 41(-6.75,-10.525) 42(-6.25,-10.525) 43(-5.75,-10.525) 44(-5.25,-10.525) 45(-4.75,-10.525) 46(-4.25,-10.525) 47(-3.75,-10.525) 48(-3.25,-10.525) 49(-2.75,-10.525) 50(-2.25,-10.525) 51(-1.75,-10.525) 52(-1.25,-10.525) 53(-0.75,-10.525) 54(-0.25,-10.525) 55(0.25,-10.525) 56(0.75,-10.525) 57(1.25,-10.525) 58(1.75,-10.525) 59(2.25,-10.525) 60(2.75,-10.525) 61(3.25,-10.525) 62(3.75,-10.525) 63(4.25,-10.525) 64(4.75,-10.525) 65(5.25,-10.525) 66(5.75,-10.525) 67(6.25,-10.525) 68(6.75,-10.525) 69(7.25,-10.525) 70(7.75,-10.525) 71(8.25,-10.525) 72(8.75,-10.525) 109(8.75,10.525) 110(8.25,10.525) 111(7.75,10.525) 112(7.25,10.525) 113(6.75,10.525) 114(6.25,10.525) 115(5.75,10.525) 116(5.25,10.525) 117(4.75,10.525) 118(4.25,10.525) 119(3.75,10.525) 120(3.25,10.525) 121(2.75,10.525) 122(2.25,10.525) 123(1.75,10.525) 124(1.25,10.525) 125(0.75,10.525) 126(0.25,10.525) 127(-0.25,10.525) 128(-0.75,10.525) 129(-1.25,10.525) 130(-1.75,10.525) 131(-2.25,10.525) 132(-2.75,10.525) 133(-3.25,10.525) 134(-3.75,10.525) 135(-4.25,10.525) 136(-4.75,10.525) 137(-5.25,10.525) 138(-5.75,10.525) 139(-6.25,10.525) 140(-6.75,10.525) 141(-7.25,10.525) 142(-7.75,10.525) 143(-8.25,10.525) 144(-8.75,10.525)
Top Overlay:
  circle w0.25: c-10.525,9.425 r0.125
  circle w0.6: c-8.35,8.35 r0.3
  lines w0.2: -9.35,-9.35 -9.35,9.35 9.35,9.35 9.35,-9.35 -9.35,-9.35
Mechanical 13:
  circle w0.1: c-9.1,9.1 r0.5
  lines w0.1: -10,-10 -10,10 10,10 10,-10 -10,-10
Mechanical 15:
  lines w0.05: -11.4,-11.4 -11.4,11.4 11.4,11.4 11.4,-11.4 -11.4,-11.4
  lines w0.1: -0.5,0 0.5,0 ; 0,-0.5 0,0.5
3D body: height 1.6, standoff 0, extent -10,-10 10,10

## SOT486-1_M [mm] "Thin QFP, 144-Leads, Body 20x20mm, Pitch 0.5mm, IPC Low Density"
height 1.6
pads (144):
  oval 2.1x0.3 smd: 1(-10.6,8.75) 2(-10.6,8.25) 3(-10.6,7.75) 4(-10.6,7.25) 5(-10.6,6.75) 6(-10.6,6.25) 7(-10.6,5.75) 8(-10.6,5.25) 9(-10.6,4.75) 10(-10.6,4.25) 11(-10.6,3.75) 12(-10.6,3.25) 13(-10.6,2.75) 14(-10.6,2.25) 15(-10.6,1.75) 16(-10.6,1.25) 17(-10.6,0.75) 18(-10.6,0.25) 19(-10.6,-0.25) 20(-10.6,-0.75) 21(-10.6,-1.25) 22(-10.6,-1.75) 23(-10.6,-2.25) 24(-10.6,-2.75) 25(-10.6,-3.25) 26(-10.6,-3.75) 27(-10.6,-4.25) 28(-10.6,-4.75) 29(-10.6,-5.25) 30(-10.6,-5.75) 31(-10.6,-6.25) 32(-10.6,-6.75) 33(-10.6,-7.25) 34(-10.6,-7.75) 35(-10.6,-8.25) 36(-10.6,-8.75) 73(10.6,-8.75) 74(10.6,-8.25) 75(10.6,-7.75) 76(10.6,-7.25) 77(10.6,-6.75) 78(10.6,-6.25) 79(10.6,-5.75) 80(10.6,-5.25) 81(10.6,-4.75) 82(10.6,-4.25) 83(10.6,-3.75) 84(10.6,-3.25) 85(10.6,-2.75) 86(10.6,-2.25) 87(10.6,-1.75) 88(10.6,-1.25) 89(10.6,-0.75) 90(10.6,-0.25) 91(10.6,0.25) 92(10.6,0.75) 93(10.6,1.25) 94(10.6,1.75) 95(10.6,2.25) 96(10.6,2.75) 97(10.6,3.25) 98(10.6,3.75) 99(10.6,4.25) 100(10.6,4.75) 101(10.6,5.25) 102(10.6,5.75) 103(10.6,6.25) 104(10.6,6.75) 105(10.6,7.25) 106(10.6,7.75) 107(10.6,8.25) 108(10.6,8.75)
  oval 0.3x2.1 smd: 37(-8.75,-10.6) 38(-8.25,-10.6) 39(-7.75,-10.6) 40(-7.25,-10.6) 41(-6.75,-10.6) 42(-6.25,-10.6) 43(-5.75,-10.6) 44(-5.25,-10.6) 45(-4.75,-10.6) 46(-4.25,-10.6) 47(-3.75,-10.6) 48(-3.25,-10.6) 49(-2.75,-10.6) 50(-2.25,-10.6) 51(-1.75,-10.6) 52(-1.25,-10.6) 53(-0.75,-10.6) 54(-0.25,-10.6) 55(0.25,-10.6) 56(0.75,-10.6) 57(1.25,-10.6) 58(1.75,-10.6) 59(2.25,-10.6) 60(2.75,-10.6) 61(3.25,-10.6) 62(3.75,-10.6) 63(4.25,-10.6) 64(4.75,-10.6) 65(5.25,-10.6) 66(5.75,-10.6) 67(6.25,-10.6) 68(6.75,-10.6) 69(7.25,-10.6) 70(7.75,-10.6) 71(8.25,-10.6) 72(8.75,-10.6) 109(8.75,10.6) 110(8.25,10.6) 111(7.75,10.6) 112(7.25,10.6) 113(6.75,10.6) 114(6.25,10.6) 115(5.75,10.6) 116(5.25,10.6) 117(4.75,10.6) 118(4.25,10.6) 119(3.75,10.6) 120(3.25,10.6) 121(2.75,10.6) 122(2.25,10.6) 123(1.75,10.6) 124(1.25,10.6) 125(0.75,10.6) 126(0.25,10.6) 127(-0.25,10.6) 128(-0.75,10.6) 129(-1.25,10.6) 130(-1.75,10.6) 131(-2.25,10.6) 132(-2.75,10.6) 133(-3.25,10.6) 134(-3.75,10.6) 135(-4.25,10.6) 136(-4.75,10.6) 137(-5.25,10.6) 138(-5.75,10.6) 139(-6.25,10.6) 140(-6.75,10.6) 141(-7.25,10.6) 142(-7.75,10.6) 143(-8.25,10.6) 144(-8.75,10.6)
Top Overlay:
  circle w0.25: c-10.6,9.45 r0.125
  circle w0.6: c-8.15,8.15 r0.3
  lines w0.2: -9.15,-9.15 -9.15,9.15 9.15,9.15 9.15,-9.15 -9.15,-9.15
Mechanical 13:
  circle w0.1: c-9.1,9.1 r0.5
  lines w0.1: -10,-10 -10,10 10,10 10,-10 -10,-10
Mechanical 15:
  lines w0.05: -12.15,-12.15 -12.15,12.15 12.15,12.15 12.15,-12.15 -12.15,-12.15
  lines w0.1: -0.5,0 0.5,0 ; 0,-0.5 0,0.5
3D body: height 1.6, standoff 0, extent -10,-10 10,10

## SOT486-1_N [mm] "Thin QFP, 144-Leads, Body 20x20mm, Pitch 0.5mm, IPC Medium Density"
height 1.6
pads (144):
  oval 1.8x0.3 smd: 1(-10.55,8.75) 2(-10.55,8.25) 3(-10.55,7.75) 4(-10.55,7.25) 5(-10.55,6.75) 6(-10.55,6.25) 7(-10.55,5.75) 8(-10.55,5.25) 9(-10.55,4.75) 10(-10.55,4.25) 11(-10.55,3.75) 12(-10.55,3.25) 13(-10.55,2.75) 14(-10.55,2.25) 15(-10.55,1.75) 16(-10.55,1.25) 17(-10.55,0.75) 18(-10.55,0.25) 19(-10.55,-0.25) 20(-10.55,-0.75) 21(-10.55,-1.25) 22(-10.55,-1.75) 23(-10.55,-2.25) 24(-10.55,-2.75) 25(-10.55,-3.25) 26(-10.55,-3.75) 27(-10.55,-4.25) 28(-10.55,-4.75) 29(-10.55,-5.25) 30(-10.55,-5.75) 31(-10.55,-6.25) 32(-10.55,-6.75) 33(-10.55,-7.25) 34(-10.55,-7.75) 35(-10.55,-8.25) 36(-10.55,-8.75) 73(10.55,-8.75) 74(10.55,-8.25) 75(10.55,-7.75) 76(10.55,-7.25) 77(10.55,-6.75) 78(10.55,-6.25) 79(10.55,-5.75) 80(10.55,-5.25) 81(10.55,-4.75) 82(10.55,-4.25) 83(10.55,-3.75) 84(10.55,-3.25) 85(10.55,-2.75) 86(10.55,-2.25) 87(10.55,-1.75) 88(10.55,-1.25) 89(10.55,-0.75) 90(10.55,-0.25) 91(10.55,0.25) 92(10.55,0.75) 93(10.55,1.25) 94(10.55,1.75) 95(10.55,2.25) 96(10.55,2.75) 97(10.55,3.25) 98(10.55,3.75) 99(10.55,4.25) 100(10.55,4.75) 101(10.55,5.25) 102(10.55,5.75) 103(10.55,6.25) 104(10.55,6.75) 105(10.55,7.25) 106(10.55,7.75) 107(10.55,8.25) 108(10.55,8.75)
  oval 0.3x1.8 smd: 37(-8.75,-10.55) 38(-8.25,-10.55) 39(-7.75,-10.55) 40(-7.25,-10.55) 41(-6.75,-10.55) 42(-6.25,-10.55) 43(-5.75,-10.55) 44(-5.25,-10.55) 45(-4.75,-10.55) 46(-4.25,-10.55) 47(-3.75,-10.55) 48(-3.25,-10.55) 49(-2.75,-10.55) 50(-2.25,-10.55) 51(-1.75,-10.55) 52(-1.25,-10.55) 53(-0.75,-10.55) 54(-0.25,-10.55) 55(0.25,-10.55) 56(0.75,-10.55) 57(1.25,-10.55) 58(1.75,-10.55) 59(2.25,-10.55) 60(2.75,-10.55) 61(3.25,-10.55) 62(3.75,-10.55) 63(4.25,-10.55) 64(4.75,-10.55) 65(5.25,-10.55) 66(5.75,-10.55) 67(6.25,-10.55) 68(6.75,-10.55) 69(7.25,-10.55) 70(7.75,-10.55) 71(8.25,-10.55) 72(8.75,-10.55) 109(8.75,10.55) 110(8.25,10.55) 111(7.75,10.55) 112(7.25,10.55) 113(6.75,10.55) 114(6.25,10.55) 115(5.75,10.55) 116(5.25,10.55) 117(4.75,10.55) 118(4.25,10.55) 119(3.75,10.55) 120(3.25,10.55) 121(2.75,10.55) 122(2.25,10.55) 123(1.75,10.55) 124(1.25,10.55) 125(0.75,10.55) 126(0.25,10.55) 127(-0.25,10.55) 128(-0.75,10.55) 129(-1.25,10.55) 130(-1.75,10.55) 131(-2.25,10.55) 132(-2.75,10.55) 133(-3.25,10.55) 134(-3.75,10.55) 135(-4.25,10.55) 136(-4.75,10.55) 137(-5.25,10.55) 138(-5.75,10.55) 139(-6.25,10.55) 140(-6.75,10.55) 141(-7.25,10.55) 142(-7.75,10.55) 143(-8.25,10.55) 144(-8.75,10.55)
Top Overlay:
  circle w0.25: c-10.55,9.45 r0.125
  circle w0.6: c-8.25,8.25 r0.3
  lines w0.2: -9.25,-9.25 -9.25,9.25 9.25,9.25 9.25,-9.25 -9.25,-9.25
Mechanical 13:
  circle w0.1: c-9.1,9.1 r0.5
  lines w0.1: -10,-10 -10,10 10,10 10,-10 -10,-10
Mechanical 15:
  lines w0.05: -11.7,-11.7 -11.7,11.7 11.7,11.7 11.7,-11.7 -11.7,-11.7
  lines w0.1: -0.5,0 0.5,0 ; 0,-0.5 0,0.5
3D body: height 1.6, standoff 0, extent -10,-10 10,10

## SOT486-1_V [mm] "Thin QFP, 144-Leads, Body 20x20mm, Pitch 0.5mm, NXP Recommended"
height 1.6
pads (144):
  rect 1.5x0.4 smd: 1(-10.9,8.81) 36(-10.9,-8.81) 73(10.9,-8.81) 108(10.9,8.81)
  rect 1.5x0.28 smd: 2(-10.9,8.25) 3(-10.9,7.75) 4(-10.9,7.25) 5(-10.9,6.75) 6(-10.9,6.25) 7(-10.9,5.75) 8(-10.9,5.25) 9(-10.9,4.75) 10(-10.9,4.25) 11(-10.9,3.75) 12(-10.9,3.25) 13(-10.9,2.75) 14(-10.9,2.25) 15(-10.9,1.75) 16(-10.9,1.25) 17(-10.9,0.75) 18(-10.9,0.25) 19(-10.9,-0.25) 20(-10.9,-0.75) 21(-10.9,-1.25) 22(-10.9,-1.75) 23(-10.9,-2.25) 24(-10.9,-2.75) 25(-10.9,-3.25) 26(-10.9,-3.75) 27(-10.9,-4.25) 28(-10.9,-4.75) 29(-10.9,-5.25) 30(-10.9,-5.75) 31(-10.9,-6.25) 32(-10.9,-6.75) 33(-10.9,-7.25) 34(-10.9,-7.75) 35(-10.9,-8.25) 74(10.9,-8.25) 75(10.9,-7.75) 76(10.9,-7.25) 77(10.9,-6.75) 78(10.9,-6.25) 79(10.9,-5.75) 80(10.9,-5.25) 81(10.9,-4.75) 82(10.9,-4.25) 83(10.9,-3.75) 84(10.9,-3.25) 85(10.9,-2.75) 86(10.9,-2.25) 87(10.9,-1.75) 88(10.9,-1.25) 89(10.9,-0.75) 90(10.9,-0.25) 91(10.9,0.25) 92(10.9,0.75) 93(10.9,1.25) 94(10.9,1.75) 95(10.9,2.25) 96(10.9,2.75) 97(10.9,3.25) 98(10.9,3.75) 99(10.9,4.25) 100(10.9,4.75) 101(10.9,5.25) 102(10.9,5.75) 103(10.9,6.25) 104(10.9,6.75) 105(10.9,7.25) 106(10.9,7.75) 107(10.9,8.25)
  rect 0.4x1.5 smd: 37(-8.81,-10.9) 72(8.81,-10.9) 109(8.81,10.9) 144(-8.81,10.9)
  rect 0.28x1.5 smd: 38(-8.25,-10.9) 39(-7.75,-10.9) 40(-7.25,-10.9) 41(-6.75,-10.9) 42(-6.25,-10.9) 43(-5.75,-10.9) 44(-5.25,-10.9) 45(-4.75,-10.9) 46(-4.25,-10.9) 47(-3.75,-10.9) 48(-3.25,-10.9) 49(-2.75,-10.9) 50(-2.25,-10.9) 51(-1.75,-10.9) 52(-1.25,-10.9) 53(-0.75,-10.9) 54(-0.25,-10.9) 55(0.25,-10.9) 56(0.75,-10.9) 57(1.25,-10.9) 58(1.75,-10.9) 59(2.25,-10.9) 60(2.75,-10.9) 61(3.25,-10.9) 62(3.75,-10.9) 63(4.25,-10.9) 64(4.75,-10.9) 65(5.25,-10.9) 66(5.75,-10.9) 67(6.25,-10.9) 68(6.75,-10.9) 69(7.25,-10.9) 70(7.75,-10.9) 71(8.25,-10.9) 110(8.25,10.9) 111(7.75,10.9) 112(7.25,10.9) 113(6.75,10.9) 114(6.25,10.9) 115(5.75,10.9) 116(5.25,10.9) 117(4.75,10.9) 118(4.25,10.9) 119(3.75,10.9) 120(3.25,10.9) 121(2.75,10.9) 122(2.25,10.9) 123(1.75,10.9) 124(1.25,10.9) 125(0.75,10.9) 126(0.25,10.9) 127(-0.25,10.9) 128(-0.75,10.9) 129(-1.25,10.9) 130(-1.75,10.9) 131(-2.25,10.9) 132(-2.75,10.9) 133(-3.25,10.9) 134(-3.75,10.9) 135(-4.25,10.9) 136(-4.75,10.9) 137(-5.25,10.9) 138(-5.75,10.9) 139(-6.25,10.9) 140(-6.75,10.9) 141(-7.25,10.9) 142(-7.75,10.9) 143(-8.25,10.9)
Top Overlay:
  circle w0.6: c-8.75,8.75 r0.3
  circle w0.25: c-10.9,9.56 r0.125
  lines w0.2: -9.75,-9.75 9.75,-9.75 9.75,9.75 -9.75,9.75 -9.75,-9.75
Mechanical 13:
  circle w0.1: c-9.1,9.1 r0.5
  lines w0.1: -10,-10 10,-10 10,10 -10,10 -10,-10
Mechanical 15:
  lines w0.05: -11.75,-11.75 11.75,-11.75 11.75,11.75 -11.75,11.75 -11.75,-11.75
  lines w0.1: -0.5,0 0.5,0 ; 0,-0.5 0,0.5
3D body: height 1.6, standoff 0.05, extent -10,-10 10,10

## SOT740-2 [mm] "BGA, 256-Leads, Body 17x17mm, Pitch 1mm"
height 1.55
pads (256):
  round 0.45 smd: A1(-7.5,7.5) A2(-6.5,7.5) A3(-5.5,7.5) A4(-4.5,7.5) A5(-3.5,7.5) A6(-2.5,7.5) A7(-1.5,7.5) A8(-0.5,7.5) A9(0.5,7.5) A10(1.5,7.5) A11(2.5,7.5) A12(3.5,7.5) A13(4.5,7.5) A14(5.5,7.5) A15(6.5,7.5) A16(7.5,7.5) B1(-7.5,6.5) B2(-6.5,6.5) B3(-5.5,6.5) B4(-4.5,6.5) B5(-3.5,6.5) B6(-2.5,6.5) B7(-1.5,6.5) B8(-0.5,6.5) B9(0.5,6.5) B10(1.5,6.5) B11(2.5,6.5) B12(3.5,6.5) B13(4.5,6.5) B14(5.5,6.5) B15(6.5,6.5) B16(7.5,6.5) C1(-7.5,5.5) C2(-6.5,5.5) C3(-5.5,5.5) C4(-4.5,5.5) C5(-3.5,5.5) C6(-2.5,5.5) C7(-1.5,5.5) C8(-0.5,5.5) C9(0.5,5.5) C10(1.5,5.5) C11(2.5,5.5) C12(3.5,5.5) C13(4.5,5.5) C14(5.5,5.5) C15(6.5,5.5) C16(7.5,5.5) D1(-7.5,4.5) D2(-6.5,4.5) D3(-5.5,4.5) D4(-4.5,4.5) D5(-3.5,4.5) D6(-2.5,4.5) D7(-1.5,4.5) D8(-0.5,4.5) D9(0.5,4.5) D10(1.5,4.5) D11(2.5,4.5) D12(3.5,4.5) D13(4.5,4.5) D14(5.5,4.5) D15(6.5,4.5) D16(7.5,4.5) E1(-7.5,3.5) E2(-6.5,3.5) E3(-5.5,3.5) E4(-4.5,3.5) E5(-3.5,3.5) E6(-2.5,3.5) E7(-1.5,3.5) E8(-0.5,3.5) E9(0.5,3.5) E10(1.5,3.5) E11(2.5,3.5) E12(3.5,3.5) E13(4.5,3.5) E14(5.5,3.5) E15(6.5,3.5) E16(7.5,3.5) F1(-7.5,2.5) F2(-6.5,2.5) F3(-5.5,2.5) F4(-4.5,2.5) F5(-3.5,2.5) F6(-2.5,2.5) F7(-1.5,2.5) F8(-0.5,2.5) F9(0.5,2.5) F10(1.5,2.5) F11(2.5,2.5) F12(3.5,2.5) F13(4.5,2.5) F14(5.5,2.5) F15(6.5,2.5) F16(7.5,2.5) G1(-7.5,1.5) G2(-6.5,1.5) G3(-5.5,1.5) G4(-4.5,1.5) G5(-3.5,1.5) G6(-2.5,1.5) G7(-1.5,1.5) G8(-0.5,1.5) G9(0.5,1.5) G10(1.5,1.5) G11(2.5,1.5) G12(3.5,1.5) G13(4.5,1.5) G14(5.5,1.5) G15(6.5,1.5) G16(7.5,1.5) H1(-7.5,0.5) H2(-6.5,0.5) H3(-5.5,0.5) H4(-4.5,0.5) H5(-3.5,0.5) H6(-2.5,0.5) H7(-1.5,0.5) H8(-0.5,0.5) H9(0.5,0.5) H10(1.5,0.5) H11(2.5,0.5) H12(3.5,0.5) H13(4.5,0.5) H14(5.5,0.5) H15(6.5,0.5) H16(7.5,0.5) J1(-7.5,-0.5) J2(-6.5,-0.5) J3(-5.5,-0.5) J4(-4.5,-0.5) J5(-3.5,-0.5) J6(-2.5,-0.5) J7(-1.5,-0.5) J8(-0.5,-0.5) J9(0.5,-0.5) J10(1.5,-0.5) J11(2.5,-0.5) J12(3.5,-0.5) J13(4.5,-0.5) J14(5.5,-0.5) J15(6.5,-0.5) J16(7.5,-0.5) K1(-7.5,-1.5) K2(-6.5,-1.5) K3(-5.5,-1.5) K4(-4.5,-1.5) K5(-3.5,-1.5) K6(-2.5,-1.5) K7(-1.5,-1.5) K8(-0.5,-1.5) K9(0.5,-1.5) K10(1.5,-1.5) K11(2.5,-1.5) K12(3.5,-1.5) K13(4.5,-1.5) K14(5.5,-1.5) K15(6.5,-1.5) K16(7.5,-1.5) L1(-7.5,-2.5) L2(-6.5,-2.5) L3(-5.5,-2.5) L4(-4.5,-2.5) L5(-3.5,-2.5) L6(-2.5,-2.5) L7(-1.5,-2.5) L8(-0.5,-2.5) L9(0.5,-2.5) L10(1.5,-2.5) L11(2.5,-2.5) L12(3.5,-2.5) L13(4.5,-2.5) L14(5.5,-2.5) L15(6.5,-2.5) L16(7.5,-2.5) M1(-7.5,-3.5) M2(-6.5,-3.5) M3(-5.5,-3.5) M4(-4.5,-3.5) M5(-3.5,-3.5) M6(-2.5,-3.5) M7(-1.5,-3.5) M8(-0.5,-3.5) M9(0.5,-3.5) M10(1.5,-3.5) M11(2.5,-3.5) M12(3.5,-3.5) M13(4.5,-3.5) M14(5.5,-3.5) M15(6.5,-3.5) M16(7.5,-3.5) N1(-7.5,-4.5) N2(-6.5,-4.5) N3(-5.5,-4.5) N4(-4.5,-4.5) N5(-3.5,-4.5) N6(-2.5,-4.5) N7(-1.5,-4.5) N8(-0.5,-4.5) N9(0.5,-4.5) N10(1.5,-4.5) N11(2.5,-4.5) N12(3.5,-4.5) N13(4.5,-4.5) N14(5.5,-4.5) N15(6.5,-4.5) N16(7.5,-4.5) P1(-7.5,-5.5) P2(-6.5,-5.5) P3(-5.5,-5.5) P4(-4.5,-5.5) P5(-3.5,-5.5) P6(-2.5,-5.5) P7(-1.5,-5.5) P8(-0.5,-5.5) P9(0.5,-5.5) P10(1.5,-5.5) P11(2.5,-5.5) P12(3.5,-5.5) P13(4.5,-5.5) P14(5.5,-5.5) P15(6.5,-5.5) P16(7.5,-5.5) R1(-7.5,-6.5) R2(-6.5,-6.5) R3(-5.5,-6.5) R4(-4.5,-6.5) R5(-3.5,-6.5) R6(-2.5,-6.5) R7(-1.5,-6.5) R8(-0.5,-6.5) R9(0.5,-6.5) R10(1.5,-6.5) R11(2.5,-6.5) R12(3.5,-6.5) R13(4.5,-6.5) R14(5.5,-6.5) R15(6.5,-6.5) R16(7.5,-6.5) T1(-7.5,-7.5) T2(-6.5,-7.5) T3(-5.5,-7.5) T4(-4.5,-7.5) T5(-3.5,-7.5) T6(-2.5,-7.5) T7(-1.5,-7.5) T8(-0.5,-7.5) T9(0.5,-7.5) T10(1.5,-7.5) T11(2.5,-7.5) T12(3.5,-7.5) T13(4.5,-7.5) T14(5.5,-7.5) T15(6.5,-7.5) T16(7.5,-7.5)
Top Overlay:
  circle w0.25: c-9.15,8.35 r0.125
  region: -7.5,8.5 -8.5,7.5 -8.5,8.5
  lines w0.2: -8.5,7.5 -7.5,8.5 ; -8.5,-8.5 8.5,-8.5 8.5,8.5 -8.5,8.5 -8.5,-8.5
Mechanical 13:
  lines w0.1: -8.5,-8.5 8.5,-8.5 8.5,8.5 -8.5,8.5 -8.5,-8.5
Mechanical 15:
  lines w0.05: -9.5,-9.5 9.5,-9.5 9.5,9.5 -9.5,9.5 -9.5,-9.5
  lines w0.1: -0.5,0 0.5,0 ; 0,-0.5 0,0.5
3D body: height 1.55, standoff 0, extent -8.5,-8.5 8.5,8.5

## SOT926-1 [mm] "100-Ball Low Profile Fine-Pitch BGA, 9 x 9 mm Body, 0.8 mm Pitch"
height 1.2
pads (100):
  round 0.4 smd: A1(-3.6,3.6) A2(-2.8,3.6) A3(-2,3.6) A4(-1.2,3.6) A5(-0.4,3.6) A6(0.4,3.6) A7(1.2,3.6) A8(2,3.6) A9(2.8,3.6) A10(3.6,3.6) B1(-3.6,2.8) B2(-2.8,2.8) B3(-2,2.8) B4(-1.2,2.8) B5(-0.4,2.8) B6(0.4,2.8) B7(1.2,2.8) B8(2,2.8) B9(2.8,2.8) B10(3.6,2.8) C1(-3.6,2) C2(-2.8,2) C3(-2,2) C4(-1.2,2) C5(-0.4,2) C6(0.4,2) C7(1.2,2) C8(2,2) C9(2.8,2) C10(3.6,2) D1(-3.6,1.2) D2(-2.8,1.2) D3(-2,1.2) D4(-1.2,1.2) D5(-0.4,1.2) D6(0.4,1.2) D7(1.2,1.2) D8(2,1.2) D9(2.8,1.2) D10(3.6,1.2) E1(-3.6,0.4) E2(-2.8,0.4) E3(-2,0.4) E4(-1.2,0.4) E5(-0.4,0.4) E6(0.4,0.4) E7(1.2,0.4) E8(2,0.4) E9(2.8,0.4) E10(3.6,0.4) F1(-3.6,-0.4) F2(-2.8,-0.4) F3(-2,-0.4) F4(-1.2,-0.4) F5(-0.4,-0.4) F6(0.4,-0.4) F7(1.2,-0.4) F8(2,-0.4) F9(2.8,-0.4) F10(3.6,-0.4) G1(-3.6,-1.2) G2(-2.8,-1.2) G3(-2,-1.2) G4(-1.2,-1.2) G5(-0.4,-1.2) G6(0.4,-1.2) G7(1.2,-1.2) G8(2,-1.2) G9(2.8,-1.2) G10(3.6,-1.2) H1(-3.6,-2) H2(-2.8,-2) H3(-2,-2) H4(-1.2,-2) H5(-0.4,-2) H6(0.4,-2) H7(1.2,-2) H8(2,-2) H9(2.8,-2) H10(3.6,-2) J1(-3.6,-2.8) J2(-2.8,-2.8) J3(-2,-2.8) J4(-1.2,-2.8) J5(-0.4,-2.8) J6(0.4,-2.8) J7(1.2,-2.8) J8(2,-2.8) J9(2.8,-2.8) J10(3.6,-2.8) K1(-3.6,-3.6) K2(-2.8,-3.6) K3(-2,-3.6) K4(-1.2,-3.6) K5(-0.4,-3.6) K6(0.4,-3.6) K7(1.2,-3.6) K8(2,-3.6) K9(2.8,-3.6) K10(3.6,-3.6)
Top Overlay:
  circle w0.25: c-5.15,4.35 r0.125
  region: -3.584,4.5 -4.5,3.584 -4.5,4.5
  lines w0.2: -4.5,3.584 -3.584,4.5 ; -4.5,-4.5 4.5,-4.5 4.5,4.5 -4.5,4.5 -4.5,-4.5
Mechanical 13:
  lines w0.1: -4.5,-4.5 4.5,-4.5 4.5,4.5 -4.5,4.5 -4.5,-4.5
Mechanical 15:
  lines w0.05: -5.5,-5.5 5.5,-5.5 5.5,5.5 -5.5,5.5 -5.5,-5.5
  lines w0.1: -0.5,0 0.5,0 ; 0,-0.5 0,0.5
3D body: height 1.2, standoff 0, extent -4.499,-4.499 4.499,4.499